# Altium schematic symbol library JST_XH_4PIN.SchLib: 1 symbol
Pins are listed as number, name and electrical type; pins without a type are passive.

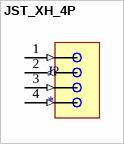
[diagram p0: symbol JST_XH_4P]

## JST_XH_4P
designator J?
Number of Positions: 4; Mounting Type: Through Hole; Series: XH
footprint 4PIN_JST_CONNECTOR
pins: 1 (in), 2 (out), 3 (in), 4 (in)